# Altium footprint library PCB - DIODES - LED RGB 4-PLCC 3228 1.9MM.PcbLib: 1 footprints
Each footprint in its own frame and in the unit in brackets; x right, y up, seen from the top. Pads: shape width x height; smd on the part's side, far side on the other; paste and mask are expansions set on the pad; w line width, h text height; cw(c..) or ccw(c..) is an arc to the next point about the centre after c.
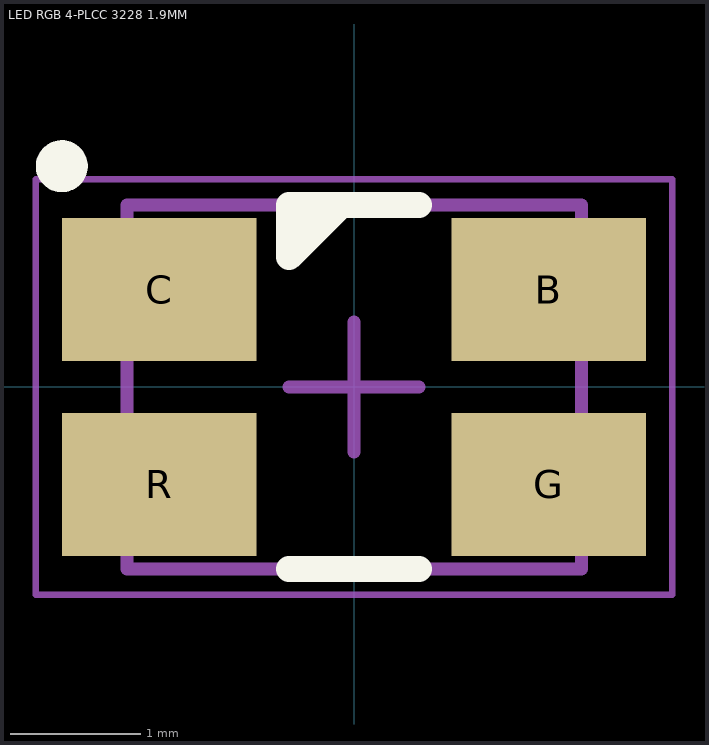
[diagram p0: the footprint, top view; thin cyan lines are the x and y axes]

## LED RGB 4-PLCC 3228 1.9MM [mm] "SMD RGB LED Indication, 4 Pads, Body 3.2x2.8mm, Package 4-PLCC"
height 1.9
pads (4):
  rect 1.5x1.1 smd: B(1.5,0.75) C(-1.5,0.75) G(1.5,-0.75) R(-1.5,-0.75)
Top Overlay:
  circle w0.2: c-2.25,1.7 r0.1
  region: -0.5,1.4 -0.1,1.4 -0.5,1
  region: -0.5,1.55
  lines w0.2: -0.5,-1.4 0.5,-1.4 ; -0.1,1.4 -0.5,1 -0.5,1.4 0.5,1.4
Mechanical 13:
  circle w0.1: c-1.15,0.85 r0.3
  lines w0.1: -1.75,-1.4 -1.75,1.4 1.75,1.4 1.75,-1.4 -1.75,-1.4
Mechanical 15 (Mech15):
  lines w0.05: -2.45,-1.6 -2.45,1.6 2.45,1.6 2.45,-1.6 -2.45,-1.6
  lines w0.1: -0.5,0 0,0 ; 0,-0.5 0,0 ; 0,0.5 0,0 ; 0.5,0 0,0
3D body "LED RGB 4-PLCC 3228 1.9MM BODY.step": height 2.09, standoff 0, extent -1.75,-1.4 1.75,1.4
3D body "LED RGB 4-PLCC 3228 1.9MM LENS.step": height 2.05, standoff 1.34, extent -1.179,-1.179 1.179,1.179